# Altium footprint library 05-01891R2.1T.PcbLib: 18 footprints (part 1 of 2)
Each footprint in its own frame and in the unit in brackets; x right, y up, seen from the top. Pads: shape width x height; smd on the part's side, far side on the other; paste and mask are expansions set on the pad; w line width, h text height; cw(c..) or ccw(c..) is an arc to the next point about the centre after c.
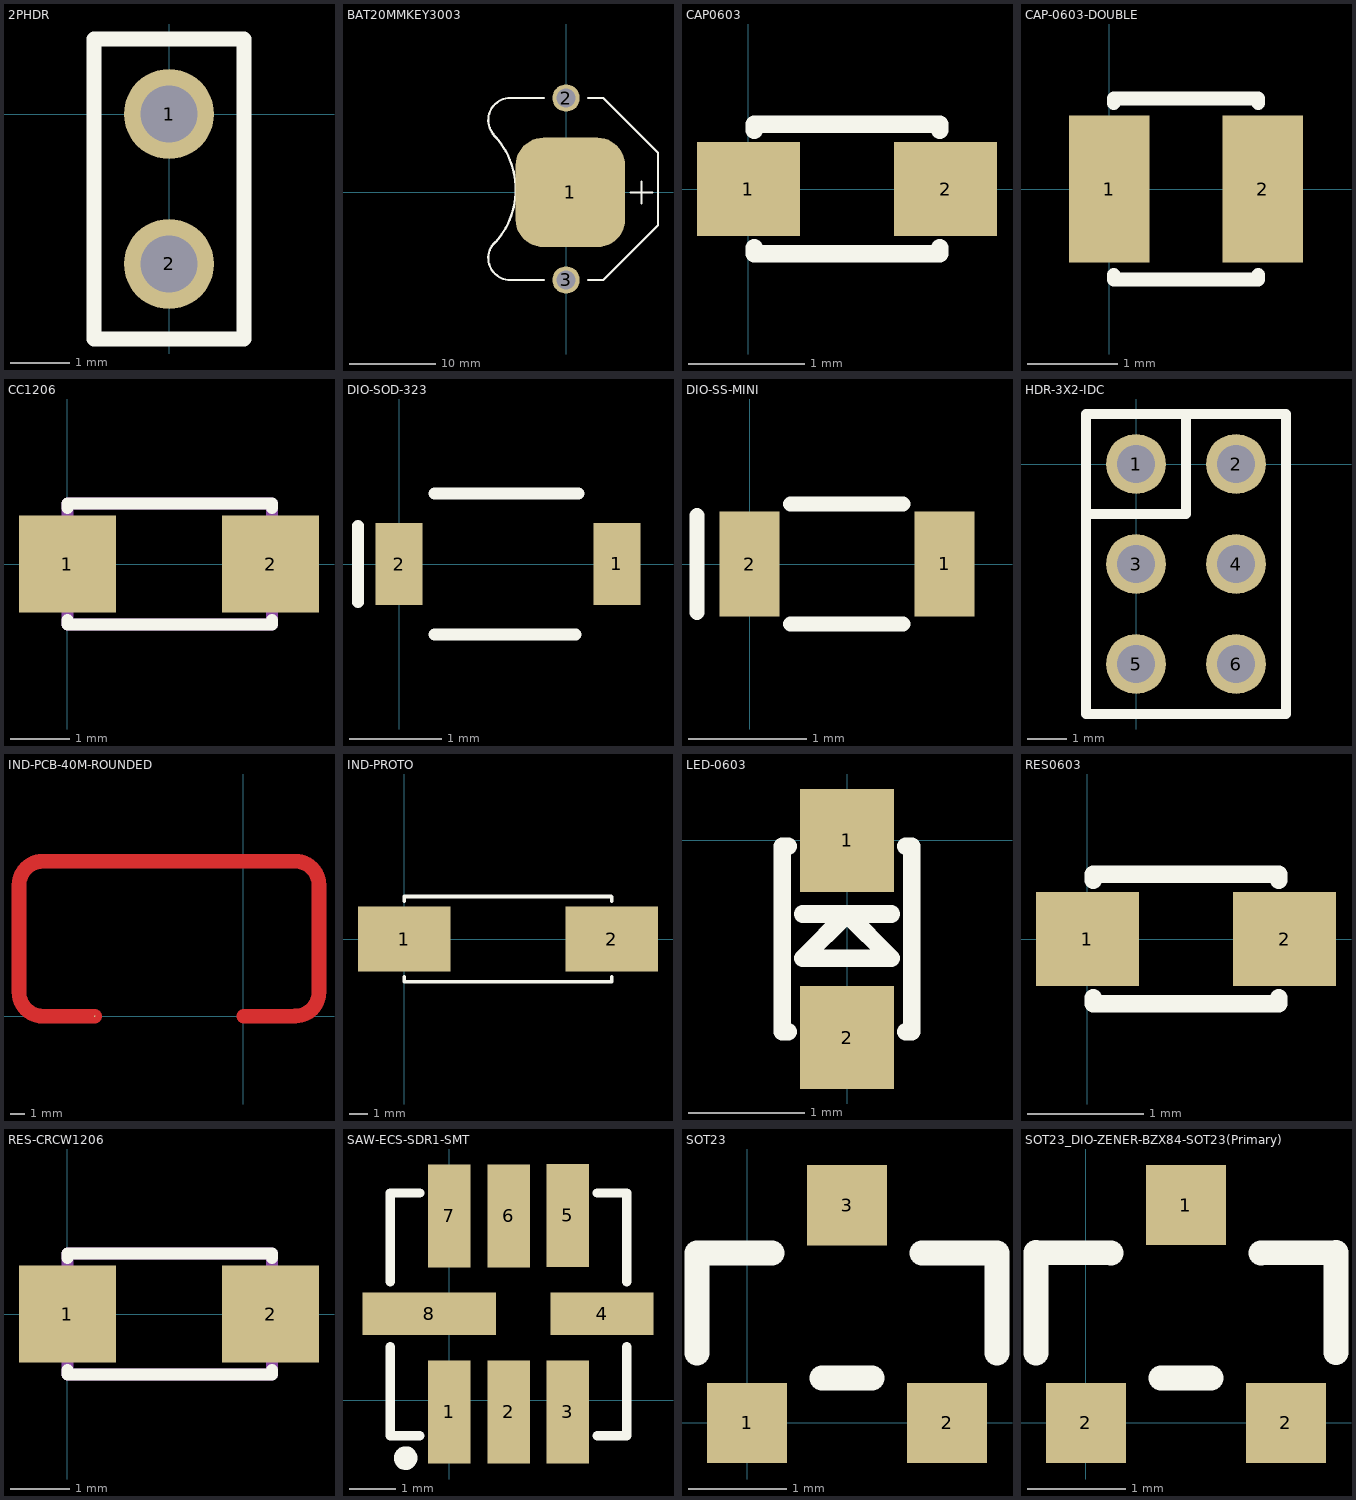
[diagram p0: the footprints below, top view; thin cyan lines are the x and y axes]

## 2PHDR [mil]
pads (2):
  round 60 hole 38: 1(0,0) 2(0,-100)
Top Overlay:
  lines w10: -50,-150 -50,50 50,50 50,-150 -50,-150

## BAT20MMKEY3003 [mil]
pads (3):
  rrect50% 500x500 smd: 1(20,0)
  round 125 hole 86: 2(0,431) 3(0,-400)
Top Overlay:
  lines w10: -335.44,-241.56 ccw(c-590,13) -335.44,267.56 ; -332.72,-237.07 ccw(c-255,-300) -255,-400 -100,-400 ; -332.72,268.07 cw(c-255,331) -255,431 -100,431 ; 100,-400 170,-400 420,-150 420,181 170,431 100,431 ; 295,0 395,0 ; 345,-50 345,50

## CAP0603 [mil]
pads (2):
  rect 35x32 smd: 1(0,0) 2(67,0)
Top Overlay:
  lines w6: 2,-20 2,-22 65,-22 65,-20 ; 2,20 2,22 65,22 65,20

## CAP-0603-DOUBLE [mil]
pads (2):
  rect 35x64 smd: 1(0,0) 2(67,0)
Top Overlay:
  lines w6: 2,-37.5 2,-39.5 65,-39.5 65,-37.5 ; 2,37.5 2,39.5 65,39.5 65,37.5

## CC1206 [mil]
pads (2):
  rect 64x64 smd: 1(0,0) 2(134,0)
Top Overlay:
  lines w8: 0,-37 0,-40 135,-40 135,-37 ; 0,37 0,40 135,40 135,37
Mechanical 1:
  lines w8: 0,-40 0,40 135,40 135,-40 0,-40

## DIO-SOD-323 [mil]
pads (2):
  rect 20x35 smd: 1(92.5,0) 2(0,0)
Top Overlay:
  lines w5: -17.5,-16.25 -17.5,16.25 ; 15,-30 75,-30 ; 15,30 76.25,30

## DIO-SS-MINI [mil]
pads (2):
  rect 20x35 smd: 1(65,0) 2(0,0)
Top Overlay:
  lines w5: -17.5,-16.25 -17.5,16.25 ; 13.75,-20 51.25,-20 ; 13.75,20 51.25,20

## HDR-3X2-IDC [mil]
pads (6):
  round 60 hole 38: 1(0,0) 2(100,0) 3(0,-100) 4(100,-100) 5(0,-200) 6(100,-200)
Top Overlay:
  lines w10: -50,-50 50,-50 50,50 ; -50,-250 150,-250 150,50 -50,50 -50,-250

## IND-PCB-40M-ROUNDED [mm]
pads (1):
  round 0.1 smd: 2(-10.287,0)
Top Layer:
  lines w1.016: -15.522,9.065 cw(c-13.871,9.065) -13.871,10.716 ; -15.519,1.651 -15.519,9.068 ; -15.517,1.648 ccw(c-13.866,1.648) -13.866,-0.003 ; -13.868,10.719 3.556,10.719 ; -13.843,0 -10.287,0 ; 0.025,0 3.556,0 ; 3.579,10.722 cw(c3.579,9.071) 5.23,9.071 ; 3.584,0.002 ccw(c3.584,1.653) 5.235,1.653 ; 5.232,1.676 5.232,9.093

## IND-PROTO [mil]
pads (2):
  rect 200x140 smd: 1(0,0) 2(450,0)
Top Overlay:
  lines w8: 0,81.5 0,91.5 ; 0,92 449,92 ; 0.25,-92 0.25,-82 ; 1,-92.5 450,-92.5 ; 449.75,81.5 449.75,91.5 ; 450,-92 450,-82

## LED-0603 [mil]
pads (2):
  rect 32x35 smd: 1(0,0) 2(0,-67)
Top Overlay:
  lines w6: -20,-65 -22,-65 -22,-2 -20,-2 ; -15,-25 15,-25 ; 20,-65 22,-65 22,-2 20,-2 ; -15,-40 15,-40 0,-25 -15,-40

## RES0603 [mil]
pads (2):
  rect 35x32 smd: 1(0,0) 2(67,0)
Top Overlay:
  lines w6: 2,-20 2,-22 65,-22 65,-20 ; 2,20 2,22 65,22 65,20

## RES-CRCW1206 [mil]
pads (2):
  rect 64x64 smd: 1(0,0) 2(134,0)
Top Overlay:
  lines w8: 0,-37 0,-40 135,-40 135,-37 ; 0,37 0,40 135,40 135,37
Mechanical 1:
  lines w8: 0,-40 135,-40 135,40 0,40 0,-40

## SAW-ECS-SDR1-SMT [mil]
pads (8):
  rect 36x87 smd: 1(0,-10) 2(50,-10) 3(100,-10) 5(100,156) 6(50,155.67) 7(0,155.67)
  rect 87x36 smd: 4(129,73)
  rect 113x36 smd: 8(-17,73)
Top Overlay:
  circle w10: c-37,-49 r5
  lines w8: -50,45 -50,-30 -25,-30 ; -50,100 -50,175 -25,175 ; 125,-30 150,-30 150,45 ; 125,175 150,175 150,100

## SOT23 [mil]
pads (3):
  rect 32x32 smd: 1(0,0) 2(80,0) 3(40,87)
Top Overlay:
  lines w10: -20,28 -20,68 10,68 ; 30,18 50,18 ; 70,68 100,68 100,28

## SOT23_DIO-ZENER-BZX84-SOT23(Primary) [mil]
pads (3):
  rect 32x32 smd: 1(40,87) 2(0,0) 2(80,0)
Top Overlay:
  lines w10: -20,28 -20,68 10,68 ; 30,18 50,18 ; 70,68 100,68 100,28